# EAGLE library part GH1.25-13P (library JST-GH1.25)
JST GH 1.25mm PITCH SMD HEADER
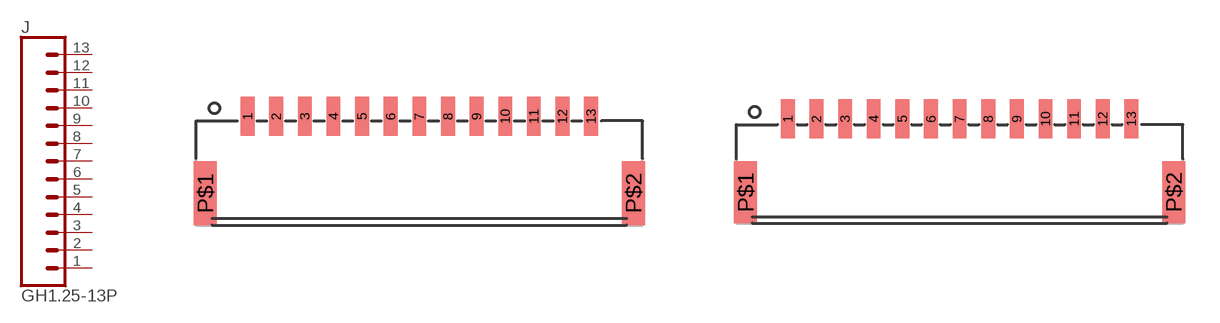
[diagram p7: symbol with the pads of BM13B-GHS-TBT; footprints BM13B-GHS-TBT, SM13B-GHS-TB]

Designator prefix J

## GH1.25-13P-BM13B-GHS-TBT  [BM13B-GHS-TBT]
1  1  pas
2  2  pas
3  3  pas
4  4  pas
5  5  pas
6  6  pas
7  7  pas
8  8  pas
9  9  pas
10  10  pas
11  11  pas
12  12  pas
13  13  pas

## GH1.25-13P-SM13B-GHS-TB  [SM13B-GHS-TB]
Pads as for BM13B-GHS-TBT

## Footprint BM13B-GHS-TBT (pad centres in mm)
TOP ENTRY JST GH 1.25mm SMD HEADER
smd 0.6 x 1.7: 1 -7.5,4.75; 2 -6.25,4.75; 3 -5,4.75; 4 -3.75,4.75; 5 -2.5,4.75; 6 -1.25,4.75; 7 0,4.75; 8 1.25,4.75; 9 2.5,4.75; 10 3.75,4.75; 11 5,4.75; 12 6.25,4.75; 13 7.5,4.75
smd 1 x 2.8: P$1 -9.35,1.4; P$2 9.35,1.4

## Footprint SM13B-GHS-TB (pad centres in mm)
SIDE ENTRY JST GH 1.25mm SMD HEADER
smd 0.6 x 1.7: 1 -7.5,4.55; 2 -6.25,4.55; 3 -5,4.55; 4 -3.75,4.55; 5 -2.5,4.55; 6 -1.25,4.55; 7 0,4.55; 8 1.25,4.55; 9 2.5,4.55; 10 3.75,4.55; 11 5,4.55; 12 6.25,4.55; 13 7.5,4.55
smd 1 x 2.7: P$1 -9.35,1.35; P$2 9.35,1.35